# Altium schematic symbol library SCH - FET - NMOS - BSC005N03LS5IATMA1.SCHLIB: 1 symbol
Pins are listed as number, name and electrical type; pins without a type are passive.

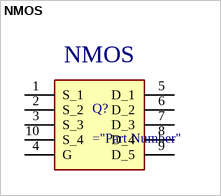
[diagram p0: symbol NMOS]

## NMOS
designator Q?
NMOS
pins: 1 S_1, 2 S_2, 3 S_3, 4 G, 5 D_1, 6 D_2, 7 D_3, 8 D_4, 9 D_5, 10 S_4